# EAGLE library part VREG-MIC5331 (library harrison)
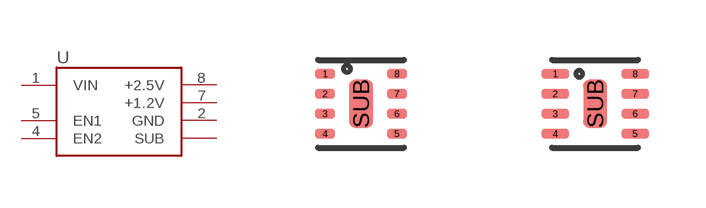
[diagram p53: symbol with the pads of THINMLF8; footprints THINMLF8, THINMLF8HW]

Designator prefix U

## VREG-MIC5331-J4YMT (RNUMBER: R00430; VAL: MIC5331-2.5/1.2)  [THINMLF8]
1  VIN  pwr
2  GND  pwr
4  EN2  in
5  EN1  in
7  +1.2V  pwr
8  +2.5V  pwr
SUB  SUB  pwr

## VREG-MIC5331-J4YMT-HW (RNUMBER: R00430; VAL: MIC5331-J4Y)  [THINMLF8HW]
Pads as for THINMLF8

## Footprint THINMLF8 (pad centres in mm)
smd 0.5 x 0.25: 1 -0.9,0.75; 2 -0.9,0.25; 3 -0.9,-0.25; 4 -0.9,-0.75; 5 0.9,-0.75; 6 0.9,-0.25; 7 0.9,0.25; 8 0.9,0.75
smd 0.6 x 1.2: SUB 0,0

## Footprint THINMLF8HW (pad centres in mm)
smd 0.7 x 0.25: 1 -1,0.75; 2 -1,0.25; 3 -1,-0.25; 4 -1,-0.75; 5 1,-0.75; 6 1,-0.25; 7 1,0.25; 8 1,0.75
smd 0.6 x 1.2: SUB 0,0